# EAGLE library part ALD1107 (library nest_interface)
4x P-FET transistor chip
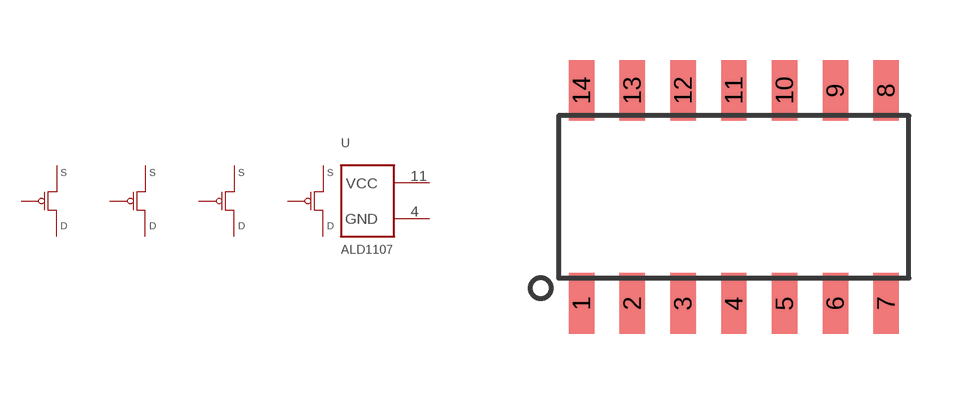
[diagram p0: symbol with the pads of SOIC-14; footprint SOIC-14]

Designator prefix U

## ALD1107 (DIGIKEY: 1014-1015-ND)  [SOIC-14]
1  D1
2  G1
3  S1
4  GND
5  D4
6  G4
7  S4
8  S3
9  G3
10  D3
11  VCC
12  S2
13  G2
14  D2

## Footprint SOIC-14 (pad centres in mm)
smd 0.635 x 1.524: 1 -3.81,-2.667; 2 -2.54,-2.667; 3 -1.27,-2.667; 4 0,-2.667; 5 1.27,-2.667; 6 2.54,-2.667; 7 3.81,-2.667; 8 3.81,2.667; 9 2.54,2.667; 10 1.27,2.667; 11 0,2.667; 12 -1.27,2.667; 13 -2.54,2.667; 14 -3.81,2.667